# EAGLE library part OMRON_XF2L-30 (library pager)
FFC/FPC-to-Board 0.50mm (.020") SMT Top Contact Right Angle, ZIF, Style Receptacle 52745 / 52435 Source: http://www.molex.com/product/ffc/52745.html
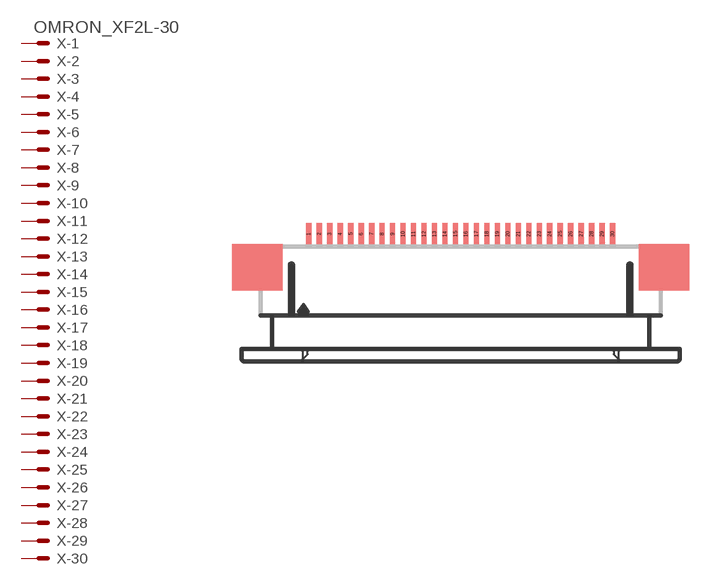
[diagram p1: symbol with the pads of OMRON_XF2L-30; footprint OMRON_XF2L-30]

Designator prefix X; gates -1=MV -2=M -3=M -4=M -5=M -6=M -7=M -8=M -9=M -10=M -11=M -12=M -13=M -14=M -15=M -16=M -17=M -18=M -19=M -20=M -21=M -22=M -23=M -24=M -25=M -26=M -27=M -28=M -29=M -30=M

## OMRON_XF2L-30  [OMRON_XF2L-30]
1  -1:S  pas
2  -2:S  pas
3  -3:S  pas
4  -4:S  pas
5  -5:S  pas
6  -6:S  pas
7  -7:S  pas
8  -8:S  pas
9  -9:S  pas
10  -10:S  pas
11  -11:S  pas
12  -12:S  pas
13  -13:S  pas
14  -14:S  pas
15  -15:S  pas
16  -16:S  pas
17  -17:S  pas
18  -18:S  pas
19  -19:S  pas
20  -20:S  pas
21  -21:S  pas
22  -22:S  pas
23  -23:S  pas
24  -24:S  pas
25  -25:S  pas
26  -26:S  pas
27  -27:S  pas
28  -28:S  pas
29  -29:S  pas
30  -30:S  pas

## OMRON_XF2L-30REVERSE  [OMRON_XF2L-30]
1  -30:S  pas
2  -29:S  pas
3  -28:S  pas
4  -27:S  pas
5  -26:S  pas
6  -25:S  pas
7  -24:S  pas
8  -23:S  pas
9  -22:S  pas
10  -21:S  pas
11  -20:S  pas
12  -19:S  pas
13  -18:S  pas
14  -17:S  pas
15  -16:S  pas
16  -15:S  pas
17  -14:S  pas
18  -13:S  pas
19  -12:S  pas
20  -11:S  pas
21  -10:S  pas
22  -9:S  pas
23  -8:S  pas
24  -7:S  pas
25  -6:S  pas
26  -5:S  pas
27  -4:S  pas
28  -3:S  pas
29  -2:S  pas
30  -1:S  pas

## Footprint OMRON_XF2L-30 (pad centres in mm)
30 pins ZIF Slide-locking Connector (0.5-mm Pitch)
smd 0.25 x 1: 1 -7.25,2.5; 2 -6.75,2.5; 3 -6.25,2.5; 4 -5.75,2.5; 5 -5.25,2.5; 6 -4.75,2.5; 7 -4.25,2.5; 8 -3.75,2.5; 9 -3.25,2.5; 10 -2.75,2.5; 11 -2.25,2.5; 12 -1.75,2.5; 13 -1.25,2.5; 14 -0.75,2.5; 15 -0.25,2.5; 16 0.25,2.5; 17 0.75,2.5; 18 1.25,2.5; 19 1.75,2.5; 20 2.25,2.5; 21 2.75,2.5; 22 3.25,2.5; 23 3.75,2.5; 24 4.25,2.5; 25 4.75,2.5; 26 5.25,2.5; 27 5.75,2.5; 28 6.25,2.5; 29 6.75,2.5; 30 7.25,2.5